# Altium footprint library SnapEDApcb.PcbLib: 1 footprints
Each footprint in its own frame and in the unit in brackets; x right, y up, seen from the top. Pads: shape width x height; smd on the part's side, far side on the other; paste and mask are expansions set on the pad; w line width, h text height; cw(c..) or ccw(c..) is an arc to the next point about the centre after c.
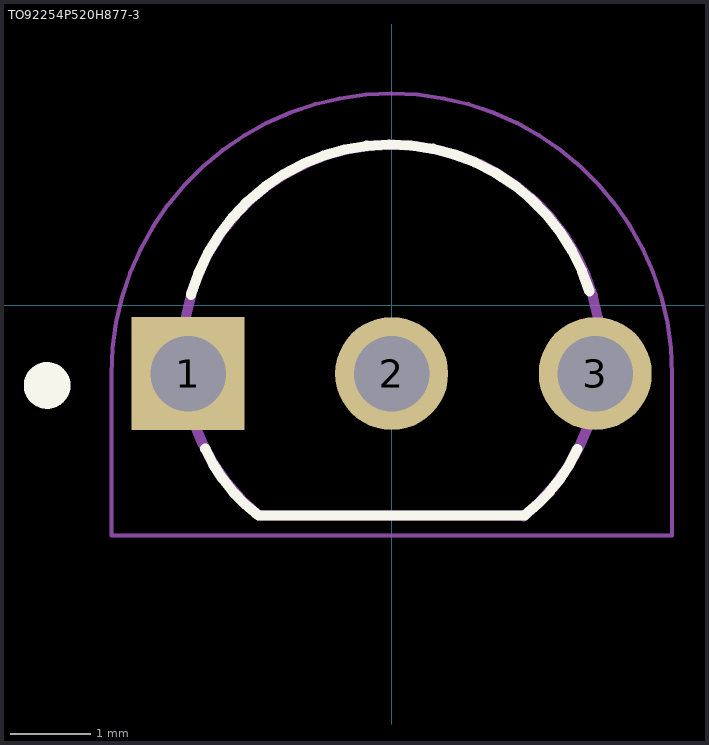
[diagram p0: the footprint, top view; thin cyan lines are the x and y axes]

## TO92254P520H877-3 [mm]
pads (3):
  rect 1.41x1.41 hole 0.94: 1(-2.54,-0.853)
  round 1.41 hole 0.94: 2(0,-0.853) 3(2.54,-0.853)
Top Overlay:
  circle w0.3: c-4.3,-1 r0.141
  lines w0.127: -2.506,0.128 cw(c-0.013,-0.587) 2.468,0.172 ; -2.326,-1.791 ccw(c-0.4,-0.934) -1.669,-2.617 ; -1.661,-2.623 1.661,-2.623 ; 1.659,-2.618 ccw(c0.39,-0.935) 2.316,-1.792
Mechanical 13:
  lines w0.127: -1.679,-2.608 cw(c0,-0.608) 1.643,-2.637 ; -1.661,-2.623 1.661,-2.623
Mechanical 15:
  lines w0.05: -3.5,-2.873 3.5,-2.873 3.5,-0.857 ccw(c0,-0.857) -3.5,-0.857 -3.5,-2.873